# EAGLE library part DCMOTOR (library TWIPR)
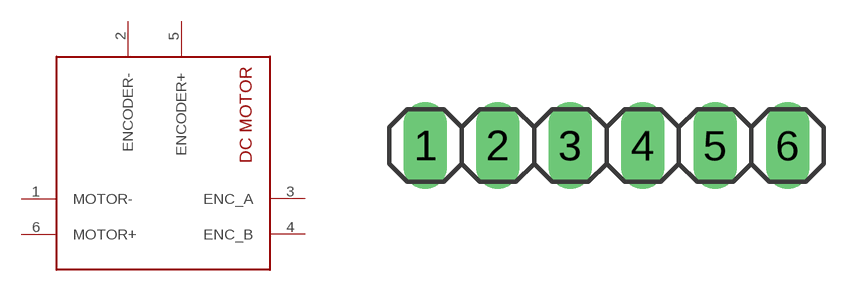
[diagram p1: symbol with the pads of 1X06; footprint 1X06]

Designator prefix -

## DCMOTOR  [1X06]
1  MOTOR-
2  ENCODER-
3  ENC_A
4  ENC_B
5  ENCODER+
6  MOTOR+

## Footprint 1X06 (pad centres in mm)
PIN HEADER
drill 1.016 long: 1 -6.35,0; 2 -3.81,0; 3 -1.27,0; 4 1.27,0; 5 3.81,0; 6 6.35,0